# Altium schematic symbol library ISOLATOR.SchLib: 1 symbol
Pins are listed as number, name and electrical type; pins without a type are passive.

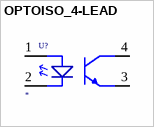
[diagram p0: symbol OPTOISO_4-LEAD]

## OPTOISO_4-LEAD
designator U?
OPTOISO 4 LEAD; Manufacturer Part Number: *
pins: 1, 2, 3, 4